# Altium footprint library SM_CON5x2_2.54_SHROUD_MALE.PcbLib: 1 footprints
Each footprint in its own frame and in the unit in brackets; x right, y up, seen from the top. Pads: shape width x height; smd on the part's side, far side on the other; paste and mask are expansions set on the pad; w line width, h text height; cw(c..) or ccw(c..) is an arc to the next point about the centre after c.
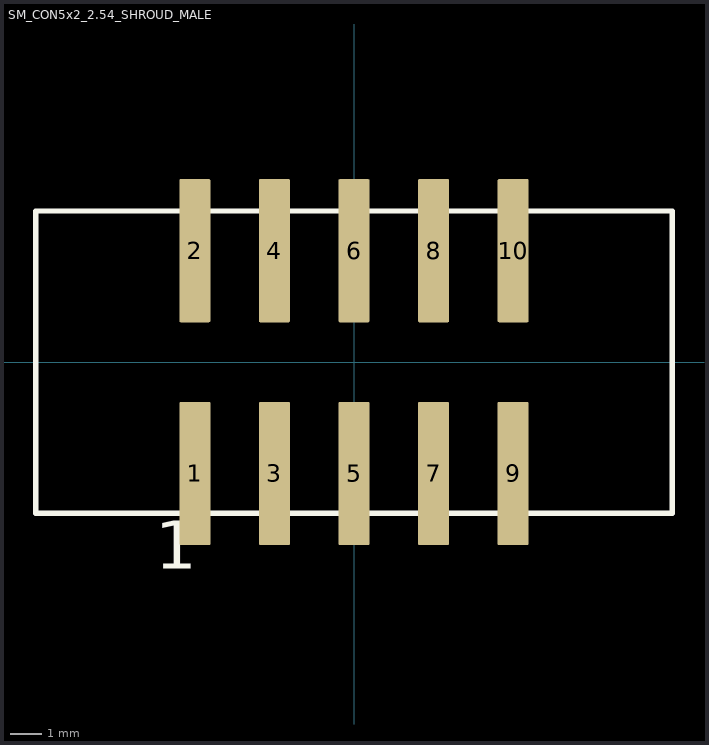
[diagram p0: the footprint, top view; thin cyan lines are the x and y axes]

## SM_CON5x2_2.54_SHROUD_MALE [mil]
pads (10):
  rrect10% 39.37x180 smd: 1(-200,-140) 2(-200,140) 3(-100,-140) 4(-100,140) 5(0,-140) 6(0,140) 7(100,-140) 8(100,140) 9(200,-140) 10(200,140)
Top Overlay:
  lines w6.69: -400,-190 400,-190 400,190 -400,190 -400,130.08 -400,-190
  text "1" at -250,-260 h60
3D body "HTST-105-01-L-DV.stp": height 400, standoff 0, extent -399.99,-219.99 400.01,220.01